# Altium schematic symbol library Altium.SchLib: 2 symbols
Pins are listed as number, name and electrical type; pins without a type are passive.

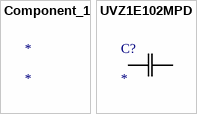
[diagram p0: symbols Component_1 to UVZ1E102MPD]

## Component_1
designator *

## UVZ1E102MPD
designator C?
Imported; Manufacturer_Part_Number: UVZ1E102MPD; C: Copyright (C) 2015 Accelerated Designs. All rights reserved; Copyright: Copyright (C) 2015 Accelerated Designs. All rights reserved; Vendor: Vendor; Value: Value
footprint U1-T
pins: 1, 2